# EAGLE library part LTC4231 (library SparkFun-IC-Power)
The LTC®4231 is a micropower Hot Swap controller that allows safe circuit board insertion and removal from a live power supply. An internal high side switch driver controls the gate of an external N-channel MOSFET. Back-to-back MOSFETs can be used for reverse supply protection down to –40V.
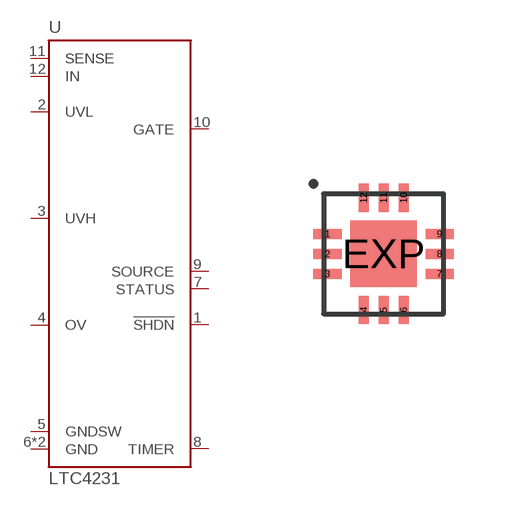
[diagram p28: symbol with the pads of QFN-12; footprint QFN-12]

Designator prefix U

## LTC4231 (PROD_ID: IC-15811; VALUE: LTC4231 Hot Swap Controller)  [QFN-12]
1  !SHDN
2  UVL
3  UVH
4  OV
5  GNDSW
6  GND
7  STATUS
8  TIMER
9  SOURCE
10  GATE
11  SENSE
12  IN
EXP  GND

## Footprint QFN-12 (pad centres in mm)
smd 0.7 x 0.25: 1 -1.4,0.5; 2 -1.4,0; 3 -1.4,-0.5; 7 1.4,-0.5; 8 1.4,0; 9 1.4,0.5
smd 0.25 x 0.7: 4 -0.5,-1.4; 5 0,-1.4; 6 0.5,-1.4; 10 0.5,1.4; 11 0,1.4; 12 -0.5,1.4
smd 1.65 x 1.65: EXP 0,0